# EAGLE library part RASPBERYPIZEROW (library RaspberyPiZeroW)
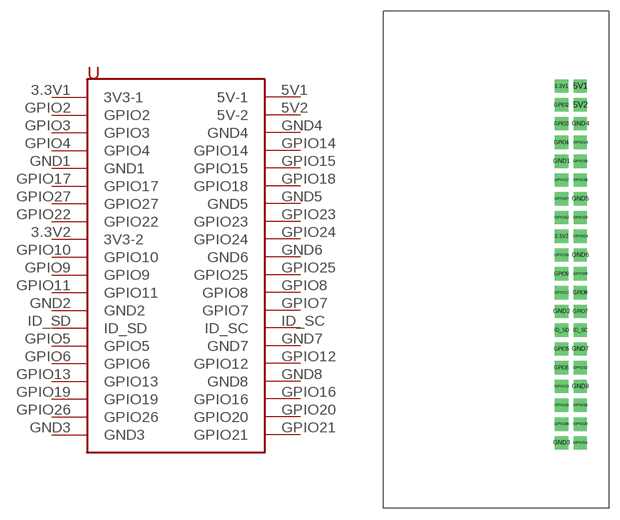
[diagram p0: symbol with the pads of RASPBERYPIZEROW; footprint RASPBERYPIZEROW]

Designator prefix -

## RASPBERYPIZEROW  [RASPBERYPIZEROW]
3.3V1  3V3-1
3.3V2  3V3-2
5V1  5V-1
5V2  5V-2
GND1  GND1
GND2  GND2
GND3  GND3
GND4  GND4
GND5  GND5
GND6  GND6
GND7  GND7
GND8  GND8
GPIO2  GPIO2
GPIO3  GPIO3
GPIO4  GPIO4
GPIO5  GPIO5
GPIO6  GPIO6
GPIO7  GPIO7
GPIO8  GPIO8
GPIO9  GPIO9
GPIO10  GPIO10
GPIO11  GPIO11
GPIO12  GPIO12
GPIO13  GPIO13
GPIO14  GPIO14
GPIO15  GPIO15
GPIO16  GPIO16
GPIO17  GPIO17
GPIO18  GPIO18
GPIO19  GPIO19
GPIO20  GPIO20
GPIO21  GPIO21
GPIO22  GPIO22
GPIO23  GPIO23
GPIO24  GPIO24
GPIO25  GPIO25
GPIO26  GPIO26
GPIO27  GPIO27
ID_SC  ID_SC
ID_SD  ID_SD

## Footprint RASPBERYPIZEROW (pad centres in mm)
drill 1.2 pad 1.676 square: 3.3V1 -1.27,35.56; 3.3V2 -1.27,15.24; 5V1 1.27,35.56; 5V2 1.27,33.02; GND1 -1.27,25.4; GND2 -1.27,5.08; GND3 -1.27,-12.7; GND4 1.27,30.48; GND5 1.27,20.32; GND6 1.27,12.7; GND7 1.27,0; GND8 1.27,-5.08; GPIO2 -1.27,33.02; GPIO3 -1.27,30.48; GPIO4 -1.27,27.94; GPIO5 -1.27,0; GPIO6 -1.27,-2.54; GPIO7 1.27,5.08; GPIO8 1.27,7.62; GPIO9 -1.27,10.16; GPIO10 -1.27,12.7; GPIO11 -1.27,7.62; GPIO12 1.27,-2.54; GPIO13 -1.27,-5.08; GPIO14 1.27,27.94; GPIO15 1.27,25.4; GPIO16 1.27,-7.62; GPIO17 -1.27,22.86; GPIO18 1.27,22.86; GPIO19 -1.27,-7.62; GPIO20 1.27,-10.16; GPIO21 1.27,-12.7; GPIO22 -1.27,17.78; GPIO23 1.27,17.78; GPIO24 1.27,15.24; GPIO25 1.27,10.16; GPIO26 -1.27,-10.16; GPIO27 -1.27,20.32; ID_SC 1.27,2.54; ID_SD -1.27,2.54